# Altium schematic symbol library BQ24075.SchLib: 1 symbol
Pins are listed as number, name and electrical type; pins without a type are passive.

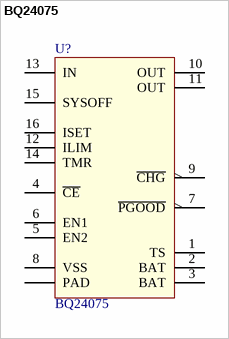
[diagram p0: symbol BQ24075]

## BQ24075
designator U?
1.5A USB-FRIENDLY Li-Ion BATTERY CHARGER AND POWER-PATH MANAGEMENT IC; value: BQ24075
footprint QFN-16-3X3 (QFN, 16-Leads, Body 3,00x3,00mm, Pitch 0,50mm, Thermal Pad 1,68x1,68mm, IPC Low Density)
pins: 1 TS, 2 BAT (power), 3 BAT, 4 ~{CE}, 5 EN2, 6 EN1, 7 ~{PGOOD} (oc), 8 VSS (power), 9 ~{CHG} (oc), 10 OUT (power), 11 OUT (power), 12 ILIM, 13 IN (power), 14 TMR, 15 SYSOFF, 16 ISET, 17 PAD (power)